# EAGLE library part BRICK2DIST (library Brick_Dist_Connector)
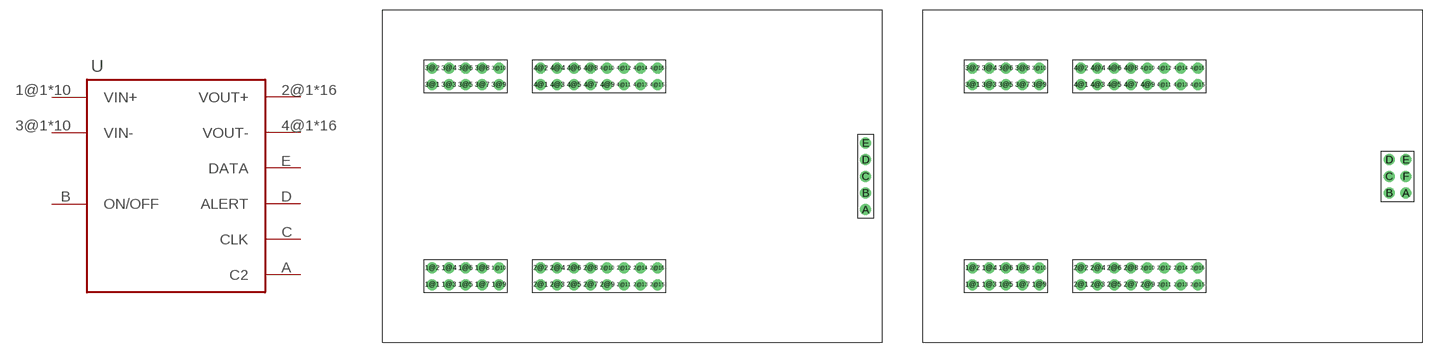
[diagram p0: symbol with the pads of BRICK2DIST_C; footprints BRICK2DIST_C, BRICK2DIST_D]

Designator prefix -

## BRICK2DISTVER_C  [BRICK2DIST_C]
1@1  VIN+
1@2  VIN+
1@3  VIN+
1@4  VIN+
1@5  VIN+
1@6  VIN+
1@7  VIN+
1@8  VIN+
1@9  VIN+
1@10  VIN+
2@1  VOUT+
2@2  VOUT+
2@3  VOUT+
2@4  VOUT+
2@5  VOUT+
2@6  VOUT+
2@7  VOUT+
2@8  VOUT+
2@9  VOUT+
2@10  VOUT+
2@11  VOUT+
2@12  VOUT+
2@13  VOUT+
2@14  VOUT+
2@15  VOUT+
2@16  VOUT+
3@1  VIN-
3@2  VIN-
3@3  VIN-
3@4  VIN-
3@5  VIN-
3@6  VIN-
3@7  VIN-
3@8  VIN-
3@9  VIN-
3@10  VIN-
4@1  VOUT-
4@2  VOUT-
4@3  VOUT-
4@4  VOUT-
4@5  VOUT-
4@6  VOUT-
4@7  VOUT-
4@8  VOUT-
4@9  VOUT-
4@10  VOUT-
4@11  VOUT-
4@12  VOUT-
4@13  VOUT-
4@14  VOUT-
4@15  VOUT-
4@16  VOUT-
A  C2
B  ON/OFF
C  CLK
D  ALERT
E  DATA

## BRICK2DISTVER_D  [BRICK2DIST_D]
Pads as for BRICK2DIST_C

## BRICK2DISTVER_E  [BRICK2DIST_E]
Pads as for BRICK2DIST_C

## BRICK2DISTVER_A  [BRICK2DIST_A]
Pads as for BRICK2DIST_C

## BRICK2DISTVER_B  [BRICK2DIST_B]
Pads as for BRICK2DIST_C

## BRICK2DIST  [BRICK2DIST_D2]
1@1  VIN+
1@2  VIN+
1@3  VIN+
1@4  VIN+
1@5  VIN+
1@6  VIN+
1@7  VIN+
1@8  VIN+
1@9  VIN+
1@10  VIN+
2@1  VOUT+
2@2  VOUT+
2@3  VOUT+
2@4  VOUT+
2@5  VOUT+
2@6  VOUT+
2@7  VOUT+
2@8  VOUT+
2@9  VOUT+
2@10  VOUT+
2@11  VOUT+
2@12  VOUT+
2@13  VOUT+
2@14  VOUT+
2@15  VOUT+
2@16  VOUT+
2@17  VOUT+
2@18  VOUT+
2@19  VOUT+
2@20  VOUT+
3@1  VIN-
3@2  VIN-
3@3  VIN-
3@4  VIN-
3@5  VIN-
3@6  VIN-
3@7  VIN-
3@8  VIN-
3@9  VIN-
3@10  VIN-
4@1  VOUT-
4@2  VOUT-
4@3  VOUT-
4@4  VOUT-
4@5  VOUT-
4@6  VOUT-
4@7  VOUT-
4@8  VOUT-
4@9  VOUT-
4@10  VOUT-
4@11  VOUT-
4@12  VOUT-
4@13  VOUT-
4@14  VOUT-
4@15  VOUT-
4@16  VOUT-
4@17  VOUT-
4@18  VOUT-
4@19  VOUT-
4@20  VOUT-
A  C2
B  ON/OFF
C  CLK
D  ALERT
E  DATA

## Footprint BRICK2DIST_C (pad centres in mm)
drill 1 pad 1.676: 1@1 -30.48,-16.51; 1@2 -30.48,-13.97; 1@3 -27.94,-16.51; 1@4 -27.94,-13.97; 1@5 -25.4,-16.51; 1@6 -25.4,-13.97; 1@7 -22.86,-16.51; 1@8 -22.86,-13.97; 1@9 -20.32,-16.51; 1@10 -20.32,-13.97; 2@1 -13.97,-16.51; 2@2 -13.97,-13.97; 2@3 -11.43,-16.51; 2@4 -11.43,-13.97; 2@5 -8.89,-16.51; 2@6 -8.89,-13.97; 2@7 -6.35,-16.51; 2@8 -6.35,-13.97; 2@9 -3.81,-16.51; 2@10 -3.81,-13.97; 2@11 -1.27,-16.51; 2@12 -1.27,-13.97; 2@13 1.27,-16.51; 2@14 1.27,-13.97; 2@15 3.81,-16.51; 2@16 3.81,-13.97; 3@1 -30.48,13.97; 3@2 -30.48,16.51; 3@3 -27.94,13.97; 3@4 -27.94,16.51; 3@5 -25.4,13.97; 3@6 -25.4,16.51; 3@7 -22.86,13.97; 3@8 -22.86,16.51; 3@9 -20.32,13.97; 3@10 -20.32,16.51; 4@1 -13.97,13.97; 4@2 -13.97,16.51; 4@3 -11.43,13.97; 4@4 -11.43,16.51; 4@5 -8.89,13.97; 4@6 -8.89,16.51; 4@7 -6.35,13.97; 4@8 -6.35,16.51; 4@9 -3.81,13.97; 4@10 -3.81,16.51; 4@11 -1.27,13.97; 4@12 -1.27,16.51; 4@13 1.27,13.97; 4@14 1.27,16.51; 4@15 3.81,13.97; 4@16 3.81,16.51; A 35.56,-5.08; B 35.56,-2.54; C 35.56,0; D 35.56,2.54; E 35.56,5.08

## Footprint BRICK2DIST_D (pad centres in mm)
drill 1 pad 1.676: 1@1 -30.48,-16.51; 1@2 -30.48,-13.97; 1@3 -27.94,-16.51; 1@4 -27.94,-13.97; 1@5 -25.4,-16.51; 1@6 -25.4,-13.97; 1@7 -22.86,-16.51; 1@8 -22.86,-13.97; 1@9 -20.32,-16.51; 1@10 -20.32,-13.97; 2@1 -13.97,-16.51; 2@2 -13.97,-13.97; 2@3 -11.43,-16.51; 2@4 -11.43,-13.97; 2@5 -8.89,-16.51; 2@6 -8.89,-13.97; 2@7 -6.35,-16.51; 2@8 -6.35,-13.97; 2@9 -3.81,-16.51; 2@10 -3.81,-13.97; 2@11 -1.27,-16.51; 2@12 -1.27,-13.97; 2@13 1.27,-16.51; 2@14 1.27,-13.97; 2@15 3.81,-16.51; 2@16 3.81,-13.97; 3@1 -30.48,13.97; 3@2 -30.48,16.51; 3@3 -27.94,13.97; 3@4 -27.94,16.51; 3@5 -25.4,13.97; 3@6 -25.4,16.51; 3@7 -22.86,13.97; 3@8 -22.86,16.51; 3@9 -20.32,13.97; 3@10 -20.32,16.51; 4@1 -13.97,13.97; 4@2 -13.97,16.51; 4@3 -11.43,13.97; 4@4 -11.43,16.51; 4@5 -8.89,13.97; 4@6 -8.89,16.51; 4@7 -6.35,13.97; 4@8 -6.35,16.51; 4@9 -3.81,13.97; 4@10 -3.81,16.51; 4@11 -1.27,13.97; 4@12 -1.27,16.51; 4@13 1.27,13.97; 4@14 1.27,16.51; 4@15 3.81,13.97; 4@16 3.81,16.51; A 35.56,-2.54; B 33.02,-2.54; C 33.02,0; D 33.02,2.54; E 35.56,2.54; F 35.56,0

## Footprint BRICK2DIST_E (pad centres in mm)
drill 1 pad 1.676: 1@1 -30.48,-16.51; 1@2 -30.48,-13.97; 1@3 -27.94,-16.51; 1@4 -27.94,-13.97; 1@5 -25.4,-16.51; 1@6 -25.4,-13.97; 1@7 -22.86,-16.51; 1@8 -22.86,-13.97; 1@9 -20.32,-16.51; 1@10 -20.32,-13.97; 2@1 -13.97,-16.51; 2@2 -13.97,-13.97; 2@3 -11.43,-16.51; 2@4 -11.43,-13.97; 2@5 -8.89,-16.51; 2@6 -8.89,-13.97; 2@7 -6.35,-16.51; 2@8 -6.35,-13.97; 2@9 -3.81,-16.51; 2@10 -3.81,-13.97; 2@11 -1.27,-16.51; 2@12 -1.27,-13.97; 2@13 1.27,-16.51; 2@14 1.27,-13.97; 2@15 3.81,-16.51; 2@16 3.81,-13.97; 3@1 -30.48,13.97; 3@2 -30.48,16.51; 3@3 -27.94,13.97; 3@4 -27.94,16.51; 3@5 -25.4,13.97; 3@6 -25.4,16.51; 3@7 -22.86,13.97; 3@8 -22.86,16.51; 3@9 -20.32,13.97; 3@10 -20.32,16.51; 4@1 -13.97,13.97; 4@2 -13.97,16.51; 4@3 -11.43,13.97; 4@4 -11.43,16.51; 4@5 -8.89,13.97; 4@6 -8.89,16.51; 4@7 -6.35,13.97; 4@8 -6.35,16.51; 4@9 -3.81,13.97; 4@10 -3.81,16.51; 4@11 -1.27,13.97; 4@12 -1.27,16.51; 4@13 1.27,13.97; 4@14 1.27,16.51; 4@15 3.81,13.97; 4@16 3.81,16.51; A 33.02,-5.08; B 33.02,-2.54; C 33.02,0; D 33.02,2.54; E 33.02,5.08; F 35.56,-5.08; G 35.56,-2.54; H 35.56,0; I 35.56,2.54; J 35.56,5.08

## Footprint BRICK2DIST_A (pad centres in mm)
drill 1 pad 1.676: 1@1 -30.48,-16.51; 1@2 -30.48,-13.97; 1@3 -27.94,-16.51; 1@4 -27.94,-13.97; 1@5 -25.4,-16.51; 1@6 -25.4,-13.97; 1@7 -22.86,-16.51; 1@8 -22.86,-13.97; 1@9 -20.32,-16.51; 1@10 -20.32,-13.97; 2@1 -13.97,-16.51; 2@2 -13.97,-13.97; 2@3 -11.43,-16.51; 2@4 -11.43,-13.97; 2@5 -8.89,-16.51; 2@6 -8.89,-13.97; 2@7 -6.35,-16.51; 2@8 -6.35,-13.97; 2@9 -3.81,-16.51; 2@10 -3.81,-13.97; 2@11 -1.27,-16.51; 2@12 -1.27,-13.97; 2@13 1.27,-16.51; 2@14 1.27,-13.97; 2@15 3.81,-16.51; 2@16 3.81,-13.97; 3@1 -30.48,13.97; 3@2 -30.48,16.51; 3@3 -27.94,13.97; 3@4 -27.94,16.51; 3@5 -25.4,13.97; 3@6 -25.4,16.51; 3@7 -22.86,13.97; 3@8 -22.86,16.51; 3@9 -20.32,13.97; 3@10 -20.32,16.51; 4@1 -13.97,13.97; 4@2 -13.97,16.51; 4@3 -11.43,13.97; 4@4 -11.43,16.51; 4@5 -8.89,13.97; 4@6 -8.89,16.51; 4@7 -6.35,13.97; 4@8 -6.35,16.51; 4@9 -3.81,13.97; 4@10 -3.81,16.51; 4@11 -1.27,13.97; 4@12 -1.27,16.51; 4@13 1.27,13.97; 4@14 1.27,16.51; 4@15 3.81,13.97; 4@16 3.81,16.51; A -6.35,21.59; B -3.81,21.59; C -1.27,21.59; D 1.27,21.59; E 3.81,21.59

## Footprint BRICK2DIST_B (pad centres in mm)
drill 1 pad 1.676: 1@1 -30.48,-16.51; 1@2 -30.48,-13.97; 1@3 -27.94,-16.51; 1@4 -27.94,-13.97; 1@5 -25.4,-16.51; 1@6 -25.4,-13.97; 1@7 -22.86,-16.51; 1@8 -22.86,-13.97; 1@9 -20.32,-16.51; 1@10 -20.32,-13.97; 2@1 -13.97,-16.51; 2@2 -13.97,-13.97; 2@3 -11.43,-16.51; 2@4 -11.43,-13.97; 2@5 -8.89,-16.51; 2@6 -8.89,-13.97; 2@7 -6.35,-16.51; 2@8 -6.35,-13.97; 2@9 -3.81,-16.51; 2@10 -3.81,-13.97; 2@11 -1.27,-16.51; 2@12 -1.27,-13.97; 2@13 1.27,-16.51; 2@14 1.27,-13.97; 2@15 3.81,-16.51; 2@16 3.81,-13.97; 3@1 -30.48,13.97; 3@2 -30.48,16.51; 3@3 -27.94,13.97; 3@4 -27.94,16.51; 3@5 -25.4,13.97; 3@6 -25.4,16.51; 3@7 -22.86,13.97; 3@8 -22.86,16.51; 3@9 -20.32,13.97; 3@10 -20.32,16.51; 4@1 -13.97,13.97; 4@2 -13.97,16.51; 4@3 -11.43,13.97; 4@4 -11.43,16.51; 4@5 -8.89,13.97; 4@6 -8.89,16.51; 4@7 -6.35,13.97; 4@8 -6.35,16.51; 4@9 -3.81,13.97; 4@10 -3.81,16.51; 4@11 -1.27,13.97; 4@12 -1.27,16.51; 4@13 1.27,13.97; 4@14 1.27,16.51; 4@15 3.81,13.97; 4@16 3.81,16.51; A 31.75,-5.08; B 31.75,-2.54; C 31.75,0; D 31.75,2.54; E 31.75,5.08

## Footprint BRICK2DIST_D2 (pad centres in mm)
drill 1 pad 1.676: 1@1 -30.48,-16.51; 1@2 -30.48,-13.97; 1@3 -27.94,-16.51; 1@4 -27.94,-13.97; 1@5 -25.4,-16.51; 1@6 -25.4,-13.97; 1@7 -22.86,-16.51; 1@8 -22.86,-13.97; 1@9 -20.32,-16.51; 1@10 -20.32,-13.97; 2@1 0,-16.51; 2@2 0,-13.97; 2@3 2.54,-16.51; 2@4 2.54,-13.97; 2@5 5.08,-16.51; 2@6 5.08,-13.97; 2@7 7.62,-16.51; 2@8 7.62,-13.97; 2@9 10.16,-16.51; 2@10 10.16,-13.97; 2@11 12.7,-16.51; 2@12 12.7,-13.97; 2@13 15.24,-16.51; 2@14 15.24,-13.97; 2@15 17.78,-16.51; 2@16 17.78,-13.97; 2@17 20.32,-13.97; 2@18 22.86,-13.97; 2@19 22.86,-16.51; 2@20 20.32,-16.51; 3@1 -30.48,13.97; 3@2 -30.48,16.51; 3@3 -27.94,13.97; 3@4 -27.94,16.51; 3@5 -25.4,13.97; 3@6 -25.4,16.51; 3@7 -22.86,13.97; 3@8 -22.86,16.51; 3@9 -20.32,13.97; 3@10 -20.32,16.51; 4@1 0,13.97; 4@2 0,16.51; 4@3 2.54,13.97; 4@4 2.54,16.51; 4@5 5.08,13.97; 4@6 5.08,16.51; 4@7 7.62,13.97; 4@8 7.62,16.51; 4@9 10.16,13.97; 4@10 10.16,16.51; 4@11 12.7,13.97; 4@12 12.7,16.51; 4@13 15.24,13.97; 4@14 15.24,16.51; 4@15 17.78,13.97; 4@16 17.78,16.51; 4@17 20.32,16.51; 4@18 22.86,16.51; 4@19 22.86,13.97; 4@20 20.32,13.97; A 35.56,-2.54; B 33.02,-2.54; C 33.02,0; D 33.02,2.54; E 35.56,2.54; F 35.56,0